# EAGLE library part TPS61088RHLR (library edrtech_lib)
Check availability <https://pricing.snapeda.com/parts/TPS61088RHLR/Texas%20Instruments/view-part?ref=eda>
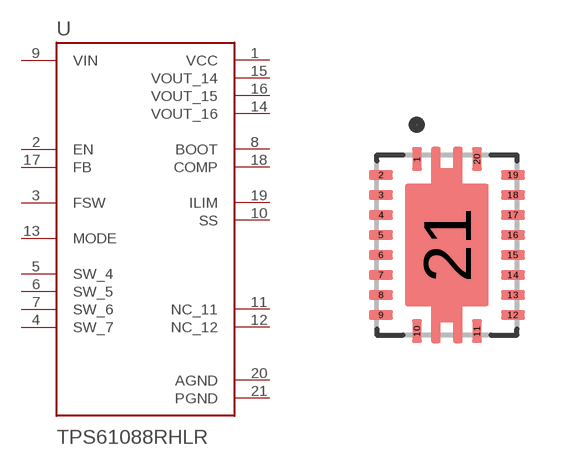
[diagram p17: symbol with the pads of IC_TPS61088RHLR; footprint IC_TPS61088RHLR]

Designator prefix U

## TPS61088RHLR (AVAILABILITY: In Stock; CHECK_PRICES: https://www.snapeda.com/parts/TPS61088RHLR/Texas+Instruments/view-part/?ref=eda; DESCRIPTION: 10-A Fully-Integrated Synchronous Boost Converter; MF: Texas Instruments; MP: TPS61088RHLR; PACKAGE: VQFN-20 Texas Instruments; PRICE: None; PURCHASE-URL: https://www.snapeda.com/api/url_track_click_mouser/?unipart_id=229898&manufacturer=Texas Instruments&part_name=TPS61088RHLR&search_term=tps61088; SNAPEDA_LINK: https://www.snapeda.com/parts/TPS61088RHLR/Texas+Instruments/view-part/?ref=snap)  [IC_TPS61088RHLR]
1  VCC  out
2  EN  in
3  FSW  in
4  SW_7  in
5  SW_4  in
6  SW_5  in
7  SW_6  in
8  BOOT  out
9  VIN  in
10  SS  out
11  NC_11  nc
12  NC_12  nc
13  MODE  in
14  VOUT_16  out
15  VOUT_14  out
16  VOUT_15  out
17  FB  in
18  COMP  out
19  ILIM  out
20  AGND  pwr
21  PGND  pwr

## Footprint IC_TPS61088RHLR (pad centres in mm)
smd 0.24 x 0.6: 1 -0.75,2.15; 10 -0.75,-2.15; 11 0.75,-2.15; 20 0.75,2.15
smd 0.6 x 0.24: 2 -1.65,1.75; 3 -1.65,1.25; 4 -1.65,0.75; 5 -1.65,0.25; 6 -1.65,-0.25; 7 -1.65,-0.75; 8 -1.65,-1.25; 9 -1.65,-1.75; 12 1.65,-1.75; 13 1.65,-1.25; 14 1.65,-0.75; 15 1.65,-0.25; 16 1.65,0.25; 17 1.65,0.75; 18 1.65,1.25; 19 1.65,1.75
smd 2.05 x 3.05: 21 0,0